# Altium footprint library BANANA_105-0751to0770.PcbLib: 1 footprints
Each footprint in its own frame and in the unit in brackets; x right, y up, seen from the top. Pads: shape width x height; smd on the part's side, far side on the other; paste and mask are expansions set on the pad; w line width, h text height; cw(c..) or ccw(c..) is an arc to the next point about the centre after c.
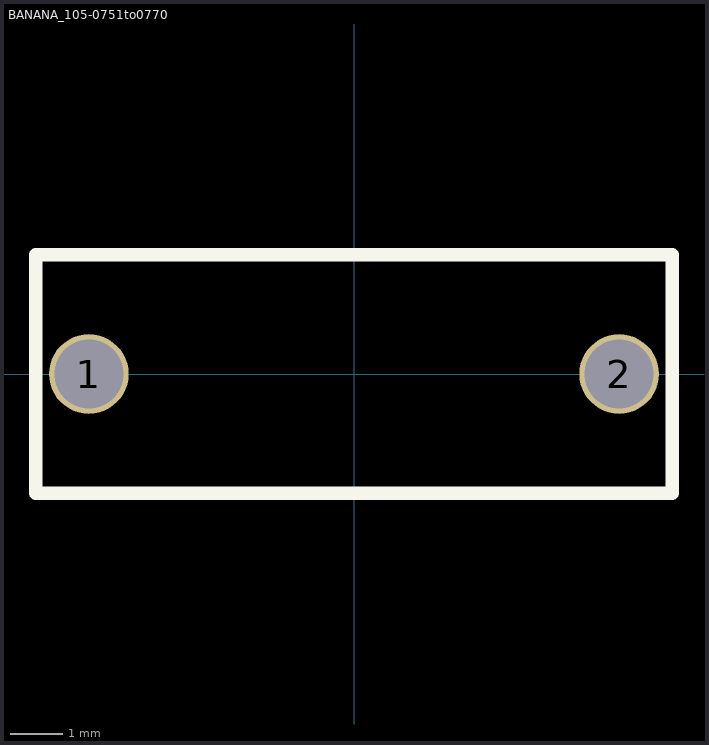
[diagram p0: the footprint, top view; thin cyan lines are the x and y axes]

## BANANA_105-0751to0770 [mil]
pads (2):
  round 60 hole 52: 1(-200,0) 2(200,0)
Top Overlay:
  lines w10: -240,-90 -240,90 240,90 240,-90 -223,-90 -240,-90
3D body: height 203, standoff 0, extent -251.97,133.86 -251.97,133.86
3D body: height 203, standoff 0, extent -200,-78 200,78